# EAGLE library part SN74LVC2G126 (library 74xx-little-de)
Dual Bus Buffer Gate With 3-State Outputs Source: http://www.ti.com.cn/cn/lit/ds/symlink/sn74lvc2g126.pdf
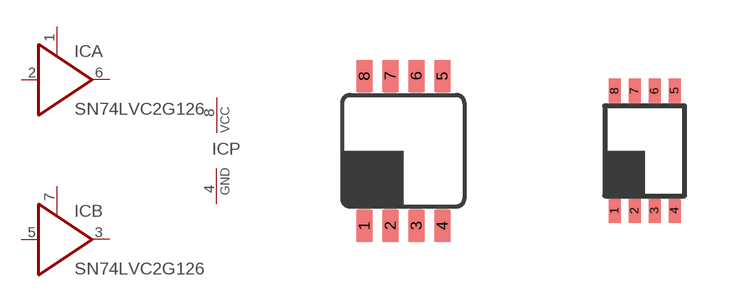
[diagram p1: symbol with the pads of DCT_R-PDSO-G8; footprints DCT_R-PDSO-G8, DCU_R-PDSO-G8]

Designator prefix IC; gates A=74126 B=74126 P=PWRN

## SN74LVC2G126DCT  [DCT_R-PDSO-G8]
1  A:OE  in
2  A:I  in
3  B:O  out
4  P:GND  pwr
5  B:I  in
6  A:O  out
7  B:OE  in
8  P:VCC  pwr

## SN74LVC2G126DCU  [DCU_R-PDSO-G8]
Pads as for DCT_R-PDSO-G8

## Footprint DCT_R-PDSO-G8 (pad centres in mm)
DCT (R-PDSO-G8) PLSTIG SMALL-OUTLINE PACKAGE Source: http://focus.ti.com/lit/ds/symlink/sn74lvc2g53.pdf
smd 0.4 x 0.8: 1 -0.975,-1.875; 2 -0.325,-1.875; 3 0.325,-1.875; 4 0.975,-1.875; 5 0.975,1.875; 6 0.325,1.875; 7 -0.325,1.875; 8 -0.975,1.875

## Footprint DCU_R-PDSO-G8 (pad centres in mm)
DCU (R-PDSO-G8) PLASTIC SMALL-OUTLINE PACKAGE (DIE DOWN) Source: http://focus.ti.com/lit/ds/symlink/sn74lvc2g53.pdf
smd 0.3 x 0.6: 1 -0.75,-1.5; 2 -0.25,-1.5; 3 0.25,-1.5; 4 0.75,-1.5; 5 0.75,1.5; 6 0.25,1.5; 7 -0.25,1.5; 8 -0.75,1.5